# Altium schematic symbol library parts - hugo import.SchLib: 51 symbols
Pins are listed as number, name and electrical type; pins without a type are passive.

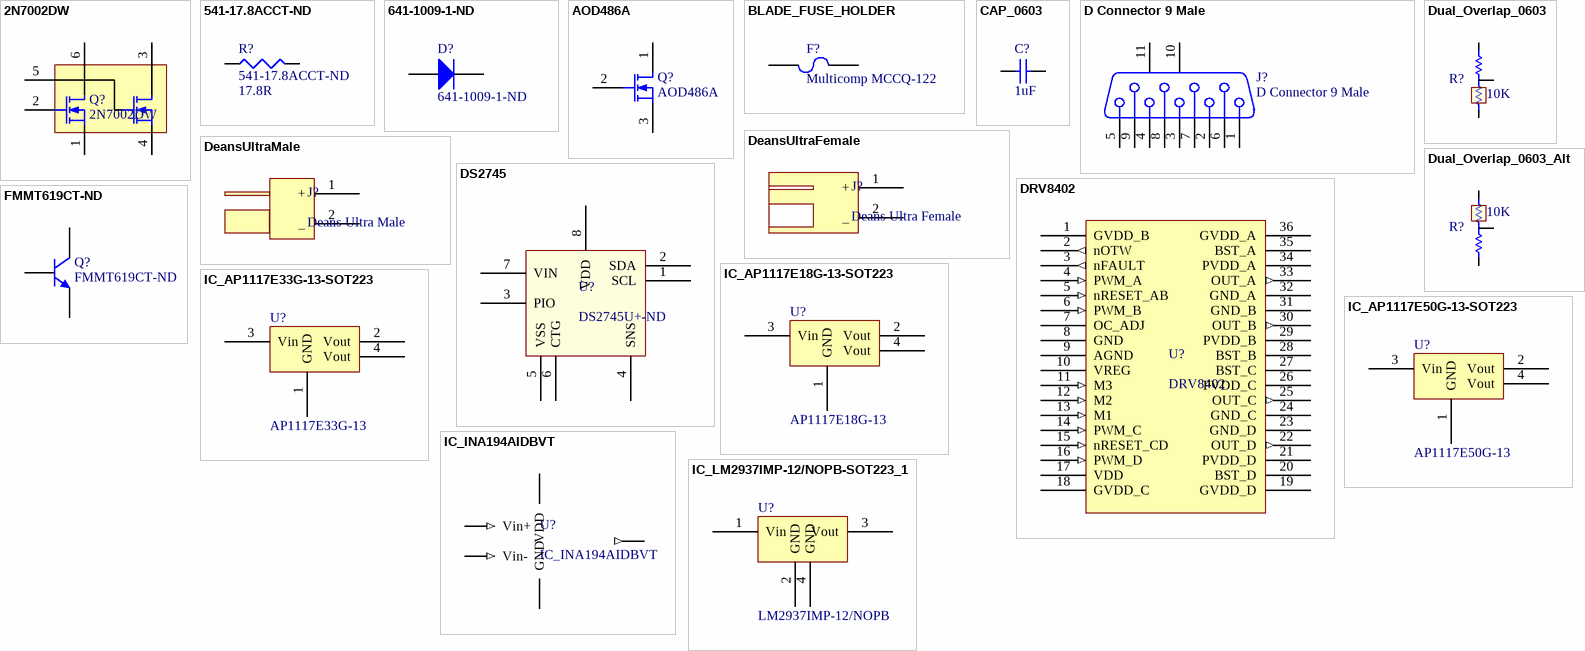
[diagram p0: symbols 2N7002DW to IC_LM2937IMP-12/NOPB-SOT223_1]

## 2N7002DW
designator Q?
Dual N-Channel MOSFET - 2N7002DW - 2N7002DW-TPCT-ND; PackageDocument: 1995/1996; Published: 8-Jun-2000; LatestRevisionDate: 17-Jul-2002; LatestRevisionNote: Re-released for DXP Platform.; PackageReference: E3; Publisher: Altium Limited
footprint SOT363_M (SOT363, 6-Leads, Body 2x1.3mm, Pitch 0.65mm, Lead Span 2.1mm, IPC Low Density)
pins: 1 S, 2 G, 3 D, 4 S, 5 G, 6 D

## 541-17.8ACCT-ND
designator R?  value 17.8R
Resistor 17.8R Balancing; Published: 8-Jun-2000; LatestRevisionDate: 04-Mar-2005; LatestRevisionNote: PCB Footprint replaced.; PackageReference: J1-0603; Publisher: Altium Limited
footprint 5025[2010] (Chip Resistor; Body 5.0 x 2.5 mm (LxW typ))
pins: 1, 2

## 641-1009-1-ND
designator D?
DIODE SCHOTTKY 40V 200MA 0603; Published: 8-Jun-2000; LatestRevisionDate: 17-Jul-2002; LatestRevisionNote: Re-released for DXP Platform.; PackageDocument: Sep-1996; PackageReference: SMC; Publisher: Altium Limited; Code_JEDEC: DO-214-AB
simulation model DIODE (Diode)
signal-integrity model Diode
footprint J1-0603 (Chip Resistor; Body 1.6 x 0.8 mm (LxW typ))
pins: 1 A, 2 K

## AOD486A
designator Q?
N-Channel MOSFET - AOD486A - 785-1115-1-ND; PackageDocument: 1995/1996; Published: 8-Jun-2000; LatestRevisionDate: 17-Jul-2002; LatestRevisionNote: Re-released for DXP Platform.; PackageReference: E3; Publisher: Altium Limited
footprint D2PAK (D2-PAK/TO-263-AB; 3 Leads (1 Cropped); Body 15.5 (inc. leads) x 10.5 mm (LxW max))
pins: 1 D, 2 G, 3 S

## BLADE_FUSE_HOLDER
designator F?, comment Multicomp MCCQ-122
Multicomp MCCQ-122 - Automotive-type Mini Blade Fuse Holder; FarnellPartNumber: 1586595
pins: 1, 2

## CAP_0603
designator C?, comment 1uF
Ceramic 0603 Capacitor (Generic); Value: 1uF
simulation model CAP (Capacitor)
signal-integrity model Cap
footprint 0603 (Non polarized 0603 footprint)
pins: 1, 2

## D Connector 9 Male
designator J?
Receptacle Assembly, 9 Position, Right Angle; farnell: 1071806
signal-integrity model Connector
footprint DSUB_MALE (Connector; D Subminiature; 9 Position; Right Angle; Pitch 1.385 mm)
pins: 1, 2, 3, 4, 5, 6, 7, 8, 9, 10 MH1, 11 MH2

## DeansUltraFemale
designator J?, comment Deans Ultra Female
footprint DEANS_FEMALE_SIDEWAYS
pins: 1 + (power), 2 _ (power)

## DeansUltraMale
designator J?, comment Deans Ultra Male
footprint DEANS_MALE_SIDEWAYS
pins: 1 + (power), 2 _ (power)

## DRV8402
designator U?
Dual Smart 5A 50V Motor Controller
footprint SOP65P1420X265-36N (SOP, 36-Leads, Body 16.8x11.1mm (max), Pitch 0.65mm, IPC Medium Density)
pins: 1 GVDD_B (power), 2 nOTW (out), 3 nFAULT (out), 4 PWM_A (in), 5 nRESET_AB (in), 6 PWM_B (in), 7 OC_ADJ, 8 GND (power), 9 AGND (power), 10 VREG (power), 11 M3 (in), 12 M2 (in), 13 M1 (in), 14 PWM_C (in), 15 nRESET_CD (in), 16 PWM_D (in), 17 VDD (power), 18 GVDD_C (power), 19 GVDD_D (power), 20 BST_D, 21 PVDD_D (power), 22 OUT_D (out), 23 GND_D (power), 24 GND_C (power), 25 OUT_C (out), 26 PVDD_C (power), 27 BST_C, 28 BST_B, 29 PVDD_B (power), 30 OUT_B (out), 31 GND_B (power), 32 GND_A (power), 33 OUT_A (out), 34 PVDD_A (power), 35 BST_A, 36 GVDD_A (power)

## DS2745
designator U?, comment DS2745U+-ND
I2C Battery Monitor, Low Cost
footprint uSOP8 (Shrink Small Outline; 8 Leads; Body Width 3 mm; Pitch 0.65 mm)
pins: 1 SCL (power), 2 SDA (power), 3 PIO (power), 4 SNS (power), 5 VSS (power), 6 CTG (power), 7 VIN (power), 8 VDD (power)

## Dual_Overlap_0603
designator R?, comment 10K
Pair of 0603 footprints, overlapping allowing one or other configuration, default low; Value: 10K
footprint Dual_Overlap_0603 (Non polarized 0603 footprint)
footprint Dual_Overlap_0603_NoAnnotation (Non polarized 0603 footprint)
footprint Dual_Overlap_0603_Dot (Non polarized 0603 footprint)
pins: 1, 2, 3

## Dual_Overlap_0603_Alt
designator R?, comment 10K
Pair of 0603 footprints, overlapping allowing one or other configuration, default high; Value: 10K
footprint Dual_Overlap_0603 (Non polarized 0603 footprint)
footprint Dual_Overlap_0603_NoAnnotation (Non polarized 0603 footprint)
footprint Dual_Overlap_0603_Dot (Non polarized 0603 footprint)
pins: 1, 2, 3

## FMMT619CT-ND
designator Q?
NPN Bipolar Transistor FMMT619CT-ND; Published: 8-Jun-2000; LatestRevisionDate: 17-Jul-2002; LatestRevisionNote: Re-released for DXP Platform.; PackageReference: SOT-23B; Publisher: Altium Limited; Code_JEDEC: SOT-23
footprint SOT-23B (SOT-23; 3 Leads; Body 3.0 x 2.6 mm, inc. leads (LxW max))
simulation model QNPN (NPN)
signal-integrity model NPN
pins: 1 B, 2 E, 3 C

## IC_AP1117E18G-13-SOT223
designator U?, comment AP1117E18G-13
1.8V fixed LDO regulator, SOT-223 package; Manufacturer: DIODES INC; Manufacturer P/N: AP1117E18G-13; FarnellPartNumber: 1825289; Value: AP1117E18G-13
footprint SOT223 (Footprint not found)
pins: 1 GND (power), 2 Vout (power), 3 Vin (power), 4 Vout

## IC_AP1117E33G-13-SOT223
designator U?, comment AP1117E33G-13
3.3V fixed LDO regulator, SOT-223 package; Manufacturer: DIODES INC; Manufacturer P/N: AP1117E33G-13; FarnellPartNumber: 1825291; Value: AP1117E33G-13
footprint SOT223 (Footprint not found)
pins: 1 GND (power), 2 Vout (power), 3 Vin (power), 4 Vout

## IC_AP1117E50G-13-SOT223
designator U?, comment AP1117E50G-13
5.0V fixed LDO regulator, SOT-223 package; Manufacturer: DIODES INC; Manufacturer P/N: AP1117E50G-13; FarnellPartNumber: 1825292; Value: AP1117E50G-13
footprint SOT223 (Footprint not found)
pins: 1 GND (power), 2 Vout (power), 3 Vin (power), 4 Vout

## IC_INA194AIDBVT
designator U?
Current Shunt Amp, 50x Gain; FarnellPartNumber: 1460050
footprint SOT23-5_INA194AIDBVT (SOT23, 5-Leads, Body 3.0x3.0mm (max), Pitch 0.95mm, IPC Medium Density)
pins: 1 OUT (out), 2 GND, 3 Vin+ (in), 4 Vin- (in), 5 VDD

## IC_LM2937IMP-12/NOPB-SOT223_1
designator U?, comment LM2937IMP-12/NOPB
12V fixed LDO regulator, SOT-223 package; Manufacturer: National Semiconductor; Manufacturer P/N: LM2937IMP-12/NOPB; FarnellPartNumber: 1469069; Value: LM2937IMP-12/NOPB
footprint SOT223 (SOT-223/SC-73; 4 Leads; Body 6.7 x 7.3 mm, inc. leads (LxW max))
pins: 1 Vin (power), 2 GND (power), 3 Vout (power), 4 GND

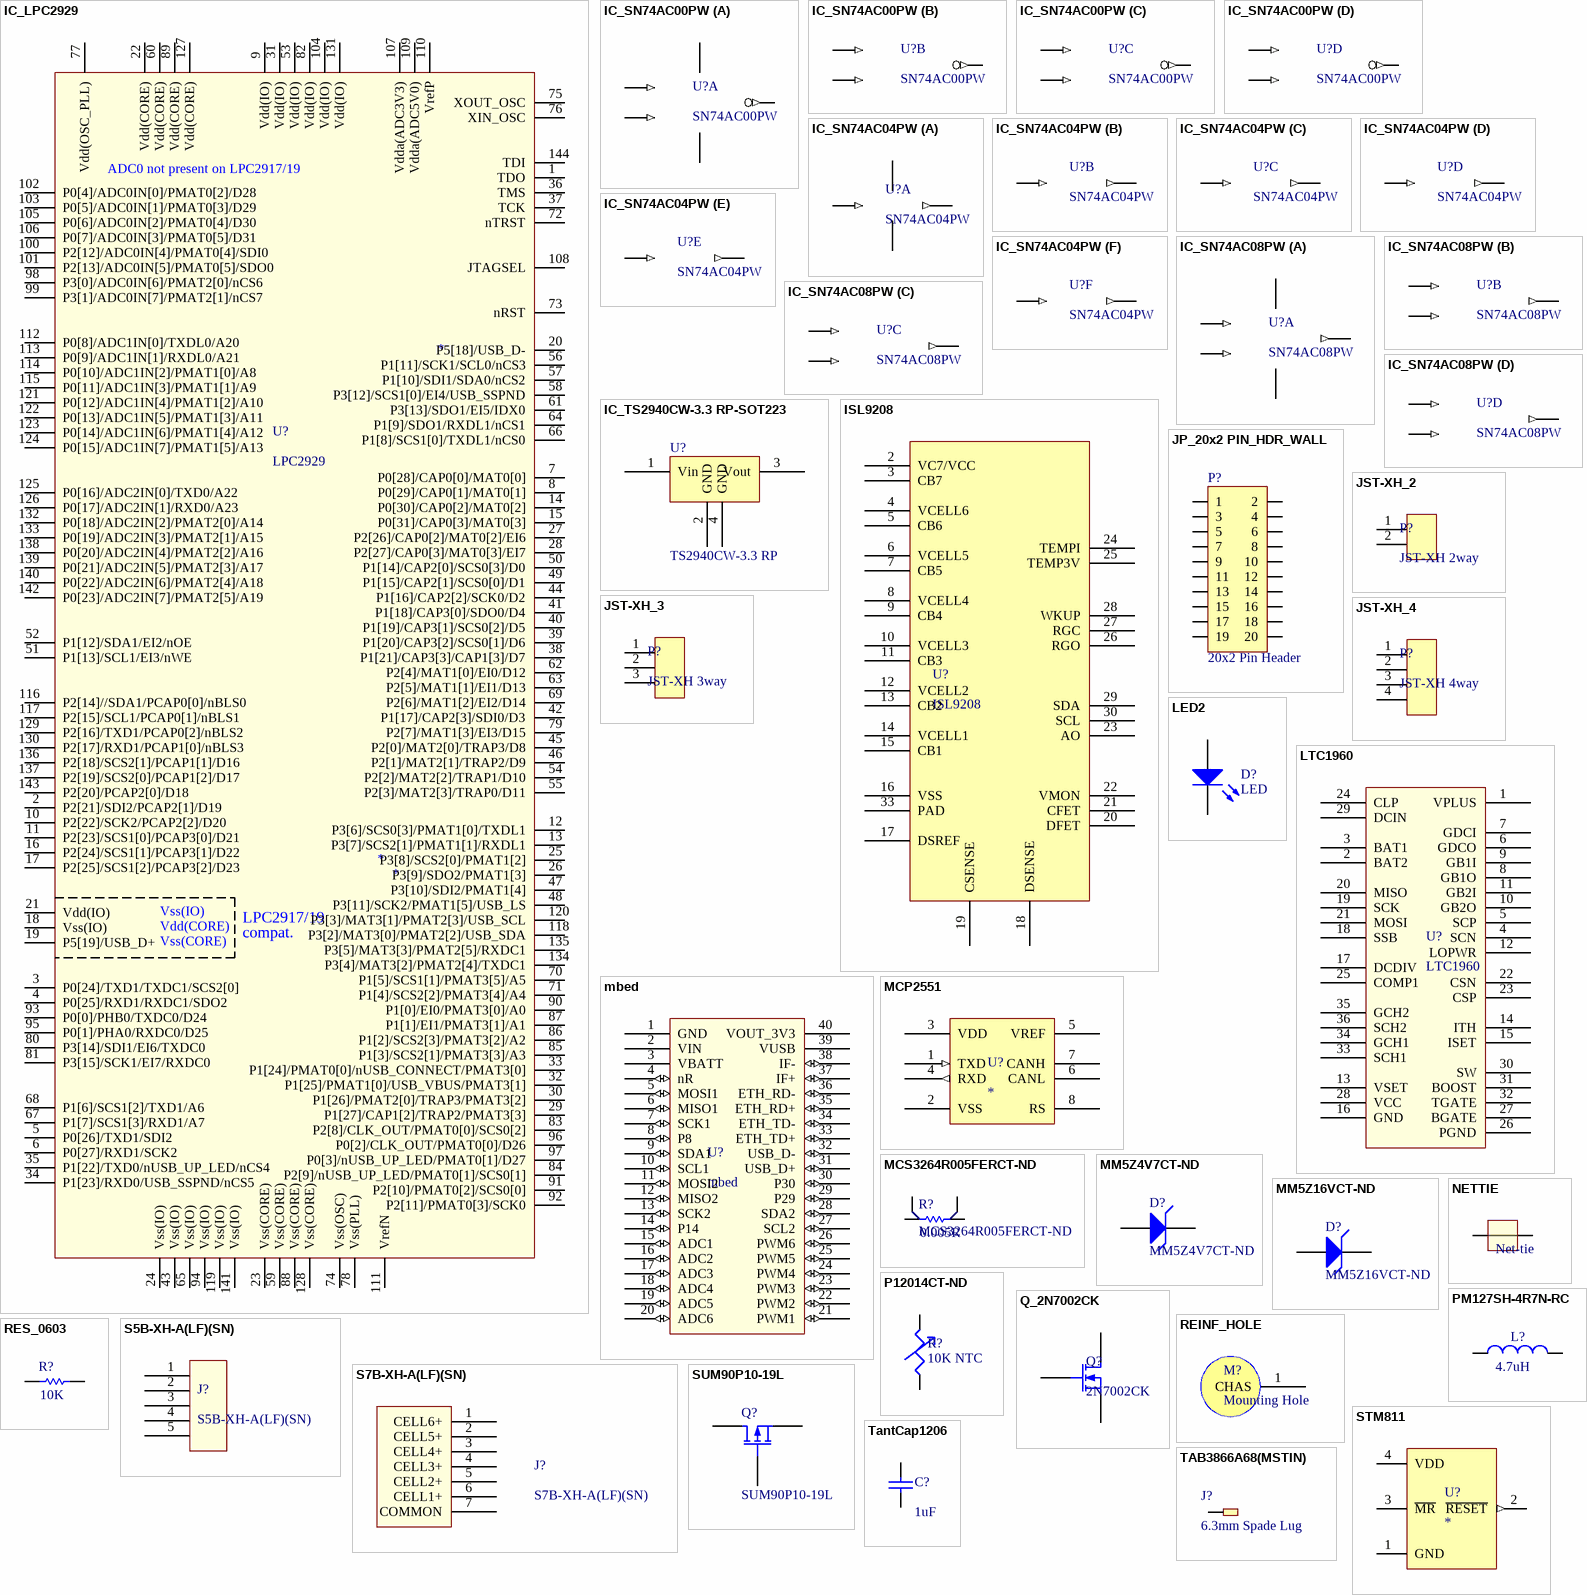
[diagram p1: symbols IC_LPC2929 to TantCap1206]

## IC_LPC2929
designator U?, comment LPC2929
NXP ARM968 Microcontroller; DigikeyPartNumber: 568-4695-ND
footprint LQFP144 (TSQFP, 144-Leads, Body 22.1x22.1mm (max), Pitch 0.50mm, IPC Medium Density)
pins: 1 TDO, 2 P2[21]/SDI2/PCAP2[1]/D19, 3 P0[24]/TXD1/TXDC1/SCS2[0], 4 P0[25]/RXD1/RXDC1/SDO2, 5 P0[26]/TXD1/SDI2, 6 P0[27]/RXD1/SCK2, 7 P0[28]/CAP0[0]/MAT0[0], 8 P0[29]/CAP0[1]/MAT0[1], 9 Vdd(IO), 10 P2[22]/SCK2/PCAP2[2]/D20, 11 P2[23]/SCS1[0]/PCAP3[0]/D21, 12 P3[6]/SCS0[3]/PMAT1[0]/TXDL1, 13 P3[7]/SCS2[1]/PMAT1[1]/RXDL1, 14 P0[30]/CAP0[2]/MAT0[2], 15 P0[31]/CAP0[3]/MAT0[3], 16 P2[24]/SCS1[1]/PCAP3[1]/D22, 17 P2[25]/SCS1[2]/PCAP3[2]/D23, 18 Vss(IO), 19 P5[19]/USB_D+, 20 P5[18]/USB_D-, 21 Vdd(IO), 22 Vdd(CORE), 23 Vss(CORE), 24 Vss(IO), 25 P3[8]/SCS2[0]/PMAT1[2], 26 P3[9]/SDO2/PMAT1[3], 27 P2[26]/CAP0[2]/MAT0[2]/EI6, 28 P2[27]/CAP0[3]/MAT0[3]/EI7, 29 P1[27]/CAP1[2]/TRAP2/PMAT3[3], 30 P1[26]/PMAT2[0]/TRAP3/PMAT3[2], 31 Vdd(IO), 32 P1[25]/PMAT1[0]/USB_VBUS/PMAT3[1], 33 P1[24]/PMAT0[0]/nUSB_CONNECT/PMAT3[0], 34 P1[23]/RXD0/USB_SSPND/nCS5, 35 P1[22]/TXD0/nUSB_UP_LED/nCS4, 36 TMS, 37 TCK, 38 P1[21]/CAP3[3]/CAP1[3]/D7, 39 P1[20]/CAP3[2]/SCS0[1]/D6, 40 P1[19]/CAP3[1]/SCS0[2]/D5, 41 P1[18]/CAP3[0]/SDO0/D4, 42 P1[17]/CAP2[3]/SDI0/D3, 43 Vss(IO), 44 P1[16]/CAP2[2]/SCK0/D2, 45 P2[0]/MAT2[0]/TRAP3/D8, 46 P2[1]/MAT2[1]/TRAP2/D9, 47 P3[10]/SDI2/PMAT1[4], 48 P3[11]/SCK2/PMAT1[5]/USB_LS, 49 P1[15]/CAP2[1]/SCS0[0]/D1, 50 P1[14]/CAP2[0]/SCS0[3]/D0, 51 P1[13]/SCL1/EI3/nWE, 52 P1[12]/SDA1/EI2/nOE, 53 Vdd(IO), 54 P2[2]/MAT2[2]/TRAP1/D10, 55 P2[3]/MAT2[3]/TRAP0/D11, 56 P1[11]/SCK1/SCL0/nCS3, 57 P1[10]/SDI1/SDA0/nCS2, 58 P3[12]/SCS1[0]/EI4/USB_SSPND, 59 Vss(CORE), 60 Vdd(CORE), 61 P3[13]/SDO1/EI5/IDX0, 62 P2[4]/MAT1[0]/EI0/D12, 63 P2[5]/MAT1[1]/EI1/D13, 64 P1[9]/SDO1/RXDL1/nCS1, 65 Vss(IO), 66 P1[8]/SCS1[0]/TXDL1/nCS0, 67 P1[7]/SCS1[3]/RXD1/A7, 68 P1[6]/SCS1[2]/TXD1/A6, 69 P2[6]/MAT1[2]/EI2/D14, 70 P1[5]/SCS1[1]/PMAT3[5]/A5, 71 P1[4]/SCS2[2]/PMAT3[4]/A4, 72 nTRST, 73 nRST, 74 Vss(OSC), 75 XOUT_OSC, 76 XIN_OSC, 77 Vdd(OSC_PLL), 78 Vss(PLL), 79 P2[7]/MAT1[3]/EI3/D15, 80 P3[14]/SDI1/EI6/TXDC0, 81 P3[15]/SCK1/EI7/RXDC0, 82 Vdd(IO), 83 P2[8]/CLK_OUT/PMAT0[0]/SCS0[2], 84 P2[9]/nUSB_UP_LED/PMAT0[1]/SCS0[1], 85 P1[3]/SCS2[1]/PMAT3[3]/A3, 86 P1[2]/SCS2[3]/PMAT3[2]/A2, 87 P1[1]/EI1/PMAT3[1]/A1, 88 Vss(CORE), 89 Vdd(CORE), 90 P1[0]/EI0/PMAT3[0]/A0, 91 P2[10]/PMAT0[2]/SCS0[0], 92 P2[11]/PMAT0[3]/SCK0, 93 P0[0]/PHB0/TXDC0/D24, 94 Vss(IO), 95 P0[1]/PHA0/RXDC0/D25, 96 P0[2]/CLK_OUT/PMAT0[0]/D26, 97 P0[3]/nUSB_UP_LED/PMAT0[1]/D27, 98 P3[0]/ADC0IN[6]/PMAT2[0]/nCS6, 99 P3[1]/ADC0IN[7]/PMAT2[1]/nCS7, 100 P2[12]/ADC0IN[4]/PMAT0[4]/SDI0, 101 P2[13]/ADC0IN[5]/PMAT0[5]/SDO0, 102 P0[4]/ADC0IN[0]/PMAT0[2]/D28, 103 P0[5]/ADC0IN[1]/PMAT0[3]/D29, 104 Vdd(IO), 105 P0[6]/ADC0IN[2]/PMAT0[4]/D30, 106 P0[7]/ADC0IN[3]/PMAT0[5]/D31, 107 Vdda(ADC3V3), 108 JTAGSEL, 109 Vdda(ADC5V0), 110 VrefP, 111 VrefN, 112 P0[8]/ADC1IN[0]/TXDL0/A20, 113 P0[9]/ADC1IN[1]/RXDL0/A21, 114 P0[10]/ADC1IN[2]/PMAT1[0]/A8, 115 P0[11]/ADC1IN[3]/PMAT1[1]/A9, 116 P2[14]//SDA1/PCAP0[0]/nBLS0, 117 P2[15]/SCL1/PCAP0[1]/nBLS1, 118 P3[2]/MAT3[0]/PMAT2[2]/USB_SDA, 119 Vss(IO), 120 P3[3]/MAT3[1]/PMAT2[3]/USB_SCL, 121 P0[12]/ADC1IN[4]/PMAT1[2]/A10, 122 P0[13]/ADC1IN[5]/PMAT1[3]/A11, 123 P0[14]/ADC1IN[6]/PMAT1[4]/A12, 124 P0[15]/ADC1IN[7]/PMAT1[5]/A13, 125 P0[16]/ADC2IN[0]/TXD0/A22, 126 P0[17]/ADC2IN[1]/RXD0/A23, 127 Vdd(CORE), 128 Vss(CORE), 129 P2[16]/TXD1/PCAP0[2]/nBLS2, 130 P2[17]/RXD1/PCAP1[0]/nBLS3, 131 Vdd(IO), 132 P0[18]/ADC2IN[2]/PMAT2[0]/A14, 133 P0[19]/ADC2IN[3]/PMAT2[1]/A15, 134 P3[4]/MAT3[2]/PMAT2[4]/TXDC1, 135 P3[5]/MAT3[3]/PMAT2[5]/RXDC1, 136 P2[18]/SCS2[1]/PCAP1[1]/D16, 137 P2[19]/SCS2[0]/PCAP1[2]/D17, 138 P0[20]/ADC2IN[4]/PMAT2[2]/A16, 139 P0[21]/ADC2IN[5]/PMAT2[3]/A17, 140 P0[22]/ADC2IN[6]/PMAT2[4]/A18, 141 Vss(IO), 142 P0[23]/ADC2IN[7]/PMAT2[5]/A19, 143 P2[20]/PCAP2[0]/D18, 144 TDI
text: ADC0 not present on LPC2917/19; LPC2917/19; compat.

## IC_SN74AC00PW
designator U?, comment SN74AC00PW
Quad 2-input NAND gate; VerificationStatus: Unchecked; FarnellPartNumber: 1749899; DigikeyPartNumber: 296-4288-1-ND
footprint TSOP14 (TSOP, 14-Leads, Body 5.1x4.5mm (max), Pitch 0.65mm, IPC Medium Density)
part A pins: 1 1A (in), 2 1B (in), 3 1Y (out), 7 GND (power), 14 VCC (power)
part B pins: 4 2A (in), 5 2B (in), 6 2Y (out)
part C pins: 8 3Y (out), 9 3A (in), 10 3B (in)
part D pins: 11 4Y (out), 12 4A (in), 13 4B (in)

## IC_SN74AC04PW
designator U?, comment SN74AC04PW
Hex Inverter; VerificationStatus: Unchecked; FarnellPartNumber: 1741166
footprint TSOP14 (TSOP, 14-Leads, Body 5.1x4.5mm (max), Pitch 0.65mm, IPC Medium Density)
part A pins: 1 1A (in), 2 1Y (out), 7 GND (power), 14 VCC (power)
part B pins: 3 2A (in), 4 2Y (out)
part C pins: 5 3A (in), 6 3Y (out)
part D pins: 8 4Y (out), 9 4A (in)
part E pins: 10 5Y (out), 11 5A (in)
part F pins: 12 6Y (out), 13 6A (in)

## IC_SN74AC08PW
designator U?, comment SN74AC08PW
Quad 2-input AND gate; VerificationStatus: Unchecked; FarnellPartNumber: 1741200
footprint TSOP14 (TSOP, 14-Leads, Body 5.1x4.5mm (max), Pitch 0.65mm, IPC Medium Density)
part A pins: 1 1A (in), 2 1B (in), 3 1Y (out), 7 GND (power), 14 VCC (power)
part B pins: 4 2A (in), 5 2B (in), 6 2Y (out)
part C pins: 8 3Y (out), 9 3A (in), 10 3B (in)
part D pins: 11 4Y (out), 12 4A (in), 13 4B (in)

## IC_TS2940CW-3.3 RP-SOT223
designator U?, comment TS2940CW-3.3 RP
3.3V fixed LDO regulator, SOT-223 package; Manufacturer: TAIWAN SEMICONDUCTOR; Manufacturer P/N: TS2940CW-3.3 RP; FarnellPartNumber: 7261403; Value: TS2940CW-3.3 RP
footprint SOT223 (SOT-223/SC-73; 4 Leads; Body 6.7 x 7.3 mm, inc. leads (LxW max))
pins: 1 Vin (power), 2 GND (power), 3 Vout (power), 4 GND

## ISL9208
designator U?
Battery AFE
footprint QFN50P500X500X145-32M (QFN, 32-Leads, Body 5.0x5.0mm (max), Pitch 0.50mm, IPC Low Density)
pins: 1 NC (power) hidden, 2 VC7/VCC (power), 3 CB7 (power), 4 VCELL6 (power), 5 CB6 (power), 6 VCELL5 (power), 7 CB5 (power), 8 VCELL4 (power), 9 CB4 (power), 10 VCELL3 (power), 11 CB3 (power), 12 VCELL2 (power), 13 CB2 (power), 14 VCELL1 (power), 15 CB1 (power), 16 VSS (power), 17 DSREF (power), 18 DSENSE (power), 19 CSENSE (power), 20 DFET (power), 21 CFET (power), 22 VMON (power), 23 AO (power), 24 TEMPI (power), 25 TEMP3V (power), 26 RGO (power), 27 RGC (power), 28 WKUP (power), 29 SDA (power), 30 SCL (power), 31 NC (power) hidden, 32 NC (power) hidden, 33 PAD (power)

## JP_20x2 PIN_HDR_WALL
designator P?, comment 20x2 Pin Header
CONN HEADER 20 POS STRGHT GOLD; Manufacturer: 3M; Manufacturer PN: N2520-6002RB; Prototype: DigiKey MHC20K-ND; LatestRevisionDate: 2 Jun 08; Value: 20x2 Pin Header
footprint G_HDR2x10_WALL (Connector; Wall Header; 10x2 Position)
pins: 1, 2, 3, 4, 5, 6, 7, 8, 9, 10, 11, 12, 13, 14, 15, 16, 17, 18, 19, 20

## JST-XH_2
designator P?, comment JST-XH 2way
JST B2B-XH-A (LF)(SN); FarnellPartNumber: 1516276
footprint G_JST-XH-2 (JST B4B-XH-A (LF)(SN))
pins: 1, 2

## JST-XH_3
designator P?, comment JST-XH 3way
JST B3B-XH-A (LF)(SN); FarnellPartNumber: 1516277
footprint G_JST-XH-3 (JST B3B-XH-A (LF)(SN))
pins: 1, 2, 3

## JST-XH_4
designator P?, comment JST-XH 4way
JST B4B-XH-A (LF)(SN); FarnellPartNumber: 1516278
footprint G_JST-XH-3 (JST B3B-XH-A (LF)(SN))
footprint G_JST-XH-4 (JST B4B-XH-A (LF)(SN))
pins: 1, 2, 3, 4

## LED2
designator D?, comment LED
Typical RED, GREEN, YELLOW, AMBER  0805 LED; Published: 8-Jun-2000; LatestRevisionDate: 17-Jul-2002; LatestRevisionNote: Re-released for DXP Platform.; PackageDocument: Feb-2002; PackageReference: 3.2X1.6X1.1; Publisher: Altium Limited
footprint 3.2X1.6X1.1 (SMT LED; 2 Flat Leads)
simulation model LED2 (Diode)
footprint C0805 (Chip Capacitor; Body 2.0 x 1.2 mm (LxW typ))
pins: 1 A, 2 K

## LTC1960
designator U?
Linear Tech Dual Battery Charger
footprint SOP65P780X199-36M (SOP, 36-Leads, Body 12.9x5.4mm (max), Pitch 0.65mm, IPC Low Density)
pins: 1 VPLUS, 2 BAT2, 3 BAT1, 4 SCN, 5 SCP, 6 GDCO, 7 GDCI, 8 GB1O, 9 GB1I, 10 GB2O, 11 GB2I, 12 LOPWR, 13 VSET, 14 ITH, 15 ISET, 16 GND, 17 DCDIV, 18 SSB, 19 SCK, 20 MISO, 21 MOSI, 22 CSN, 23 CSP, 24 CLP, 25 COMP1, 26 PGND, 27 BGATE, 28 VCC, 29 DCIN, 30 SW, 31 BOOST, 32 TGATE, 33 SCH1, 34 GCH1, 35 GCH2, 36 SCH2

## mbed
designator U?
mbed Microcontroller Module
footprint DIP40
pins: 1 GND (power), 2 VIN (power), 3 VBATT (power), 4 nR (io), 5 MOSI1 (io), 6 MISO1 (io), 7 SCK1 (io), 8 P8 (io), 9 SDA1 (io), 10 SCL1 (io), 11 MOSI2 (io), 12 MISO2 (io), 13 SCK2 (io), 14 P14 (io), 15 ADC1 (io), 16 ADC2 (io), 17 ADC3 (io), 18 ADC4 (io), 19 ADC5 (io), 20 ADC6 (io), 21 PWM1 (io), 22 PWM2 (io), 23 PWM3 (io), 24 PWM4 (io), 25 PWM5 (io), 26 PWM6 (io), 27 SCL2 (io), 28 SDA2 (io), 29 P29 (io), 30 P30 (io), 31 USB_D+ (io), 32 USB_D- (io), 33 ETH_TD+ (io), 34 ETH_TD- (io), 35 ETH_RD+ (io), 36 ETH_RD- (io), 37 IF+ (io), 38 IF- (io), 39 VUSB (power), 40 VOUT_3V3 (power)

## MCP2551
designator U?
High-speed CAN Transceiver, 1Mb/s; farnell: 9758569
footprint MCP2551-I/SN
pins: 1 TXD (in), 2 VSS (power), 3 VDD (power), 4 RXD (out), 5 VREF, 6 CANL, 7 CANH, 8 RS

## MCS3264R005FERCT-ND
designator R?  value 0.005R
Resistor 0.005R Sense; Published: 8-Jun-2000; LatestRevisionDate: 04-Mar-2005; LatestRevisionNote: PCB Footprint replaced.; PackageReference: J1-0603; Publisher: Altium Limited
footprint RESC6332M-Kelvin (Chip Resistor, Body 6.3x3.2mm, IPC Low Density)
pins: 1, 2, 3, 4

## MM5Z4V7CT-ND
designator D?
DIODE ZENER 4.7V 200MW 0603; Published: 8-Jun-2000; LatestRevisionDate: 17-Jul-2002; LatestRevisionNote: Re-released for DXP Platform.; PackageDocument: Sep-1996; PackageReference: SMC; Publisher: Altium Limited; Code_JEDEC: DO-214-AB
simulation model DIODE (Diode)
signal-integrity model Diode
footprint J1-0603 (Chip Resistor; Body 1.6 x 0.8 mm (LxW typ))
pins: 1 A, 2 K

## MM5Z16VCT-ND
designator D?
DIODE ZENER 16V 200MW 0603; Published: 8-Jun-2000; LatestRevisionDate: 17-Jul-2002; LatestRevisionNote: Re-released for DXP Platform.; PackageDocument: Sep-1996; PackageReference: SMC; Publisher: Altium Limited; Code_JEDEC: DO-214-AB
simulation model DIODE (Diode)
signal-integrity model Diode
footprint J1-0603 (Chip Resistor; Body 1.6 x 0.8 mm (LxW typ))
pins: 1 A, 2 K

## NETTIE
designator N?, comment Net-tie  (net tie, no BOM)
Net tie
footprint NetTie (Net tie)
footprint NetTie_Small (Smaller Net tie)
pins: 1, 2

## P12014CT-ND
designator R?  value 10K NTC  (hidden comment: P12014CT-ND)
10k NTC Thermistor 0603; Published: 8-Jun-2000; LatestRevisionDate: 04-Mar-2005; LatestRevisionNote: PCB Footprint replaced.; PackageReference: J1-0603; Publisher: Altium Limited
footprint J1-0603 (Chip Resistor; Body 1.6 x 0.8 mm (LxW typ))
footprint 3225[1210] (Chip Resistor; Body 3.2 x 2.5 mm (LxW typ))
footprint 5025[2010] (Chip Resistor; Body 5.0 x 2.5 mm (LxW typ))
footprint 6332[2512] (Chip Resistor; Body 6.3 x 3.2 mm (LxW typ))
simulation model RESISTOR (Resistor)
signal-integrity model Res
pins: 1, 2

## PM127SH-4R7N-RC
designator L?  value 4.7uH  (hidden comment: PM127SH-4R7N-RC)
Power Inductor 4.7 uH 6.8A - Bourns JW Miller PM127SH-4R7N-RC
footprint Inductor-PM127SH-4R7N-RC
pins: 1, 2

## Q_2N7002CK
designator Q?, comment 2N7002CK
NXP 2N7002CK; FarnellPartNumber: 1829183
footprint SOT23 (Footprint not found)
pins: 1 D, 2 S, 3 G

## REINF_HOLE
designator M?, comment Mounting Hole
Plated reinforced mounting hole
footprint M4_REINF_HOLE (M4 Plated Reinforced Mounting Hole)
footprint M4_REINF_HOLE_TopTented (M4 Plated Reinforced Mounting Hole)
footprint M3_REINF_HOL (M3 Plated Reinforced Mounting Hole)
footprint M3_REINF_HOLE_TopTented (M3 Plated Reinforced Mounting Hole)
pins: 1 CHAS

## RES_0603
designator R?  value 10K
Resistor Generic 0603
footprint 0603 (Non polarized 0603 footprint)
pins: 1, 2

## S5B-XH-A(LF)(SN)
designator J?
Balancing Connector 455-2242-ND
footprint XH_I2C_CONN
pins: 1 (power), 2 (power), 3 (power), 4 (power), 5 (power)

## S7B-XH-A(LF)(SN)
designator J?
Balancing Connector 455-2240-ND
footprint XH_BALANCE_CONN
pins: 1 CELL6+ (power), 2 CELL5+ (power), 3 CELL4+ (power), 4 CELL3+ (power), 5 CELL2+ (power), 6 CELL1+ (power), 7 COMMON (power)

## STM811
designator U?
Reset Supervisor (Active-Low); farnell: 8690537
footprint STM811 (SOT143, 4-Leads, Body 3.0x2.6mm (max), Pitch 1.92mm, IPC Medium Density)
pins: 1 GND (power), 2 ~{RESET} (out), 3 ~{MR}, 4 VDD (power)

## SUM90P10-19L
designator Q?
P-Channel MOSFET - SUM90P10-19L; PackageDocument: 1995/1996; Published: 8-Jun-2000; LatestRevisionDate: 17-Jul-2002; LatestRevisionNote: Re-released for DXP Platform.; PackageReference: E3; Publisher: Altium Limited
footprint D2PAK (D2-PAK/TO-263-AB; 3 Leads (1 Cropped); Body 15.5 (inc. leads) x 10.5 mm (LxW max))
pins: 1 D, 2 G, 3 S

## TAB3866A68(MSTIN)
designator J?, comment 6.3mm Spade Lug
JST Tab Connector 6.3x0.8mm; FarnellPartNumber: 3625588
footprint JST_6.3MM
pins: 0

## TantCap1206
designator C?, comment value 1uF  (hidden comment: 718-1113-1-ND)
TANTAMOUNT® 293D series tantalum 1206 cap; Published: 8-Jun-2000; LatestRevisionDate: 17-Jul-2002; LatestRevisionNote: Re-released for DXP Platform.; PackageReference: C1206; Publisher: Altium Limited
footprint C1206 (Chip Capacitor; Body 3.2 x 1.6 mm (LxW typ))
simulation model CAP (Semiconductor Capacitor)
signal-integrity model Cap Semi
pins: 1, 2

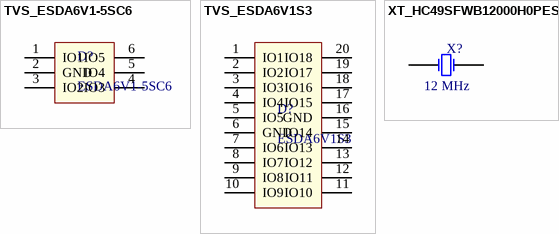
[diagram p2: symbols TVS_ESDA6V1-5SC6 to XT_HC49SFWB12000H0PESZZ]

## TVS_ESDA6V1-5SC6
designator D?, comment ESDA6V1-5SC6
5-signal ESD suppression TVS array; FarnellPartNumber: 1749270
footprint SOT23-6 (SOT23, 6-Leads, Body 3.0x3.0mm (max), Pitch 0.95mm, IPC Medium Density)
pins: 1 IO1, 2 GND, 3 IO2, 4 IO3, 5 IO4, 6 IO5

## TVS_ESDA6V1S3
designator D?, comment ESDA6V1S3
18-signal ESD suppression TVS array; FarnellPartNumber: 1749275
footprint SOIC20 (SOIC, 20-Leads, Body 13.0x7.6mm (max), Pitch 1.27mm, IPC Medium Density)
pins: 1 IO1, 2 IO2, 3 IO3, 4 IO4, 5 IO5, 6 GND, 7 IO6, 8 IO7, 9 IO8, 10 IO9, 11 IO10, 12 IO11, 13 IO12, 14 IO13, 15 IO14, 16 GND, 17 IO15, 18 IO16, 19 IO17, 20 IO18

## XT_HC49SFWB12000H0PESZZ
designator X?, comment 12 MHz
AVX HC49SFWB12000H0PESZZ 12MHz 12 pF HC-49US; VerificationStatus: Unchecked; FarnellPartNumber: 1368791; Value: 12 MHz
footprint HC49/U-S (Quartz Crystal; Through hole 10.8 x 4.4 mm (LxW max))
pins: 1 OSC1, 2 OSC2